# EAGLE library part 74HC244 (library Semiconductors > Integrated Circuits - ICs > Bus Transiever)
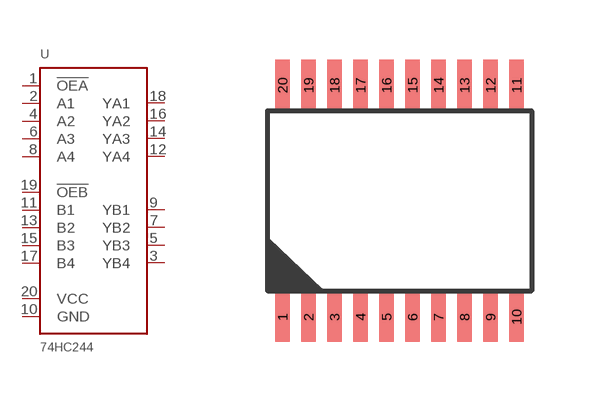
[diagram p0: symbol with the pads of TSSOP20; footprint TSSOP20]

Designator prefix U

## 74HC244  [TSSOP20]
1  !OEA
2  A1
3  YB4
4  A2
5  YB3
6  A3
7  YB2
8  A4
9  YB1
10  GND
11  B1
12  YA4
13  B2
14  YA3
15  B3
16  YA2
17  B4
18  YA1
19  !OEB
20  VCC

## Footprint TSSOP20 (pad centres in mm)
Thin Shrink Small Outline Plastic 20 MAX3223-MAX3243.pdf
smd 0.36 x 1.26: 1 -2.925,-2.9; 2 -2.275,-2.9; 3 -1.625,-2.9; 4 -0.975,-2.9; 5 -0.325,-2.9; 6 0.325,-2.9; 7 0.975,-2.9; 8 1.625,-2.9; 9 2.275,-2.9; 10 2.925,-2.9; 11 2.925,2.9; 12 2.275,2.9; 13 1.625,2.9; 14 0.975,2.9; 15 0.325,2.9; 16 -0.325,2.9; 17 -0.975,2.9; 18 -1.625,2.9; 19 -2.275,2.9; 20 -2.925,2.9